# Altium schematic symbol library LM5122QMHXNOPB.SchLib: 1 symbol
Pins are listed as number, name and electrical type; pins without a type are passive.

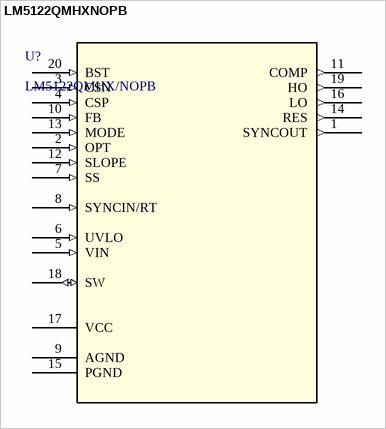
[diagram p0: symbol LM5122QMHXNOPB]

## LM5122QMHXNOPB
designator U?, comment LM5122QMHX/NOPB
Automotive, 3-V to 65-V wide VIN, current mode synchronous boost controller with multiphase 20-HTSSOP -40 to 125; Manufacturer_Name: Texas Instruments; Copyright: Copyright (C) 2026 Ultra Librarian. All rights reserved.; Manufacturer_Part_Number: LM5122QMHX/NOPB; RefDes: RefDes; Type: Type
footprint PWP20_3P0X4P2
pins: 1 SYNCOUT (out), 2 OPT (in), 3 CSN (in), 4 CSP (in), 5 VIN (in), 6 UVLO (in), 7 SS (in), 8 SYNCIN/RT (in), 9 AGND (power), 10 FB (in), 11 COMP (out), 12 SLOPE (in), 13 MODE (in), 14 RES (out), 15 PGND (power), 16 LO (out), 17 VCC (power), 18 SW (io), 19 HO (out), 20 BST (in)